# Altium footprint library TE 282834-7.PCBLIB: 1 footprints
Each footprint in its own frame and in the unit in brackets; x right, y up, seen from the top. Pads: shape width x height; smd on the part's side, far side on the other; paste and mask are expansions set on the pad; w line width, h text height; cw(c..) or ccw(c..) is an arc to the next point about the centre after c.
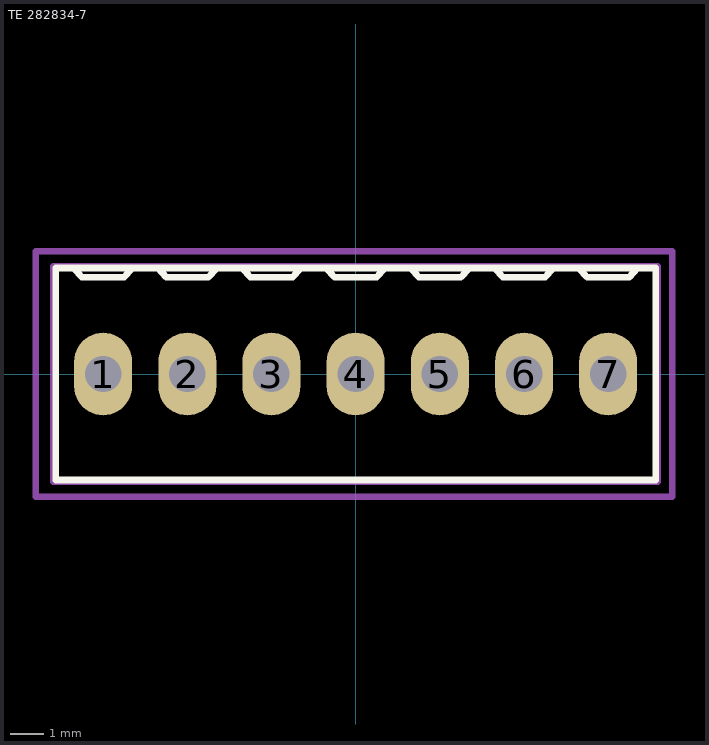
[diagram p0: the footprint, top view; thin cyan lines are the x and y axes]

## TE 282834-7 [mm]
height 10
pads (7):
  oval 1.75x2.5 hole 1.1: 1(-7.62,0) 2(-5.08,0) 3(-2.54,0) 4(0,0) 5(2.54,0) 6(5.08,0) 7(7.62,0)
Top Overlay:
  lines w0.2: -8.509,3.2 -8.255,2.921 -6.985,2.921 -6.731,3.2 ; -5.969,3.2 -5.715,2.921 -4.445,2.921 -4.191,3.2 ; -3.429,3.2 -3.175,2.921 -1.905,2.921 -1.651,3.2 ; -0.889,3.2 -0.635,2.921 0.635,2.921 0.889,3.2 ; 1.651,3.2 1.905,2.921 3.175,2.921 3.429,3.2 ; 4.191,3.2 4.445,2.921 5.715,2.921 5.969,3.2 ; 6.731,3.2 6.985,2.921 8.255,2.921 8.509,3.2 ; -9.05,-3.2 -8.95,-3.2 9.05,-3.2 9.05,3.2 -9.05,3.2 -9.05,-3.2
Mechanical 13:
  lines w0.2: -9.12,-3.25 -9.12,3.25 9.12,3.25 9.12,-3.25 -9.12,-3.25
Mechanical 15:
  lines w0.2: -0.5,0 0.5,0 ; 0,-0.5 0,0.5 ; -9.65,-3.7 9.55,-3.7 9.55,-2.9 9.55,3.7 -9.65,3.7 -9.65,-3.3 -9.65,-3.7
3D body "TE Term Block 7port 282834-7-c-3d.STEP": height 10, standoff -3.4, extent -9.12,-3.25 9.12,3.25